# Altium schematic symbol library PATHOS.SchLib: 2 symbols
Pins are listed as number, name and electrical type; pins without a type are passive.

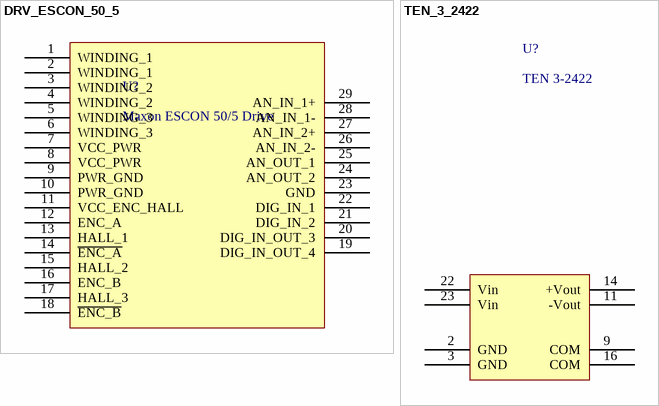
[diagram p0: symbols DRV_ESCON_50_5 to TEN_3_2422]

## DRV_ESCON_50_5
designator U?, comment Maxon ESCON 50/5 Drive
Maxon Drive 4Q
footprint ESCON_MODULE_50/5
pins: 1 WINDING_1, 2 WINDING_1, 3 WINDING_2, 4 WINDING_2, 5 WINDING_3, 6 WINDING_3, 7 VCC_PWR, 8 VCC_PWR, 9 PWR_GND, 10 PWR_GND, 11 VCC_ENC_HALL, 12 ENC_A, 13 HALL_1, 14 ~{ENC_A}, 15 HALL_2, 16 ENC_B, 17 HALL_3, 18 ~{ENC_B}, 19 DIG_IN_OUT_4, 20 DIG_IN_OUT_3, 21 DIG_IN_2, 22 DIG_IN_1, 23 GND, 24 AN_OUT_2, 25 AN_OUT_1, 26 AN_IN_2-, 27 AN_IN_2+, 28 AN_IN_1-, 29 AN_IN_1+

## TEN_3_2422
designator U?, comment TEN 3-2422
+/-12V DC-DC Converter
pins: 2 GND, 3 GND, 9 COM, 11 -Vout, 14 +Vout, 16 COM, 22 Vin, 23 Vin